# Altium integrated library HY2120.IntLib: 1 symbol
Pins are listed as number, name and electrical type; pins without a type are passive.

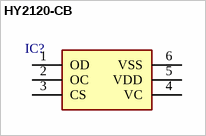
[diagram p0: symbol HY2120-CB]

## HY2120-CB
designator IC?
BMS; Manufacturer_Name: Hycon; Manufacturer_Part_Number: HY2120-CB; Datasheet Link: https://datasheet.lcsc.com/szlcsc/HYCON-Tech-HY2120CB_C116509.pdf; Height: 1.4mm
footprint SOT95P280X140-6N
pins: 1 OD, 2 OC, 3 CS, 4 VC, 5 VDD, 6 VSS